# Altium schematic symbol library FM22L16-55-GT_1.Schlib: 1 symbol
Pins are listed as number, name and electrical type; pins without a type are passive.

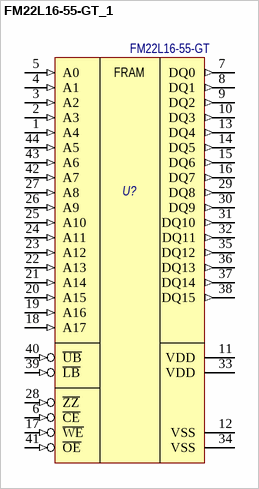
[diagram p0: symbol FM22L16-55-GT_1]

## FM22L16-55-GT_1
designator U?, comment FM22L16-55-GT
4-Mbit (256K×16) FRAM; Назначение: 4-Mbit (256K × 16) F-RAM; Потребление, Вт: 0,026; Наименование: FM22L16-55-GT
footprint TSOP-2-44 (SOP, 44-Leads, Body 18.5x10.3mm, Pitch 0.8mm, IPC Medium Density)
pins: 1 A4 (in), 2 A3 (in), 3 A2 (in), 4 A1 (in), 5 A0 (in), 6 ~{CE} (in), 7 DQ0 (out), 8 DQ1 (out), 9 DQ2 (out), 10 DQ3 (out), 11 VDD (power), 12 VSS (power), 13 DQ4 (out), 14 DQ5 (out), 15 DQ6 (out), 16 DQ7 (out), 17 ~{WE} (in), 18 A17 (in), 19 A16 (in), 20 A15 (in), 21 A14 (in), 22 A13 (in), 23 A12 (in), 24 A11 (in), 25 A10 (in), 26 A9 (in), 27 A8 (in), 28 ~{ZZ} (in), 29 DQ8 (out), 30 DQ9 (out), 31 DQ10 (out), 32 DQ11 (out), 33 VDD (power), 34 VSS (power), 35 DQ12 (out), 36 DQ13 (out), 37 DQ14 (out), 38 DQ15 (out), 39 ~{LB} (in), 40 ~{UB} (in), 41 ~{OE} (in), 42 A7 (in), 43 A6 (in), 44 A5 (in)
text: FRAM